# EAGLE library part SN74LVC1G74 (library texas-instruments)
Single Positive-Edge-Triggered D-Type Flip-Flop With Clear and Preset
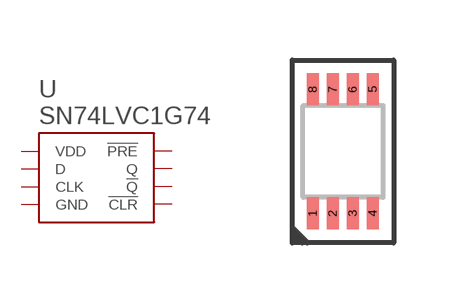
[diagram p17: symbol with the pads of R-PDSO-G8; footprint R-PDSO-G8]

Designator prefix U

## SN74LVC1G74DCU  [R-PDSO-G8]
1  CLK
2  D
3  !Q
4  GND
5  Q
6  !CLR
7  !PRE
8  VDD

## Footprint R-PDSO-G8 (pad centres in mm)
smd 0.3 x 0.8: 1 -0.75,-1.55; 2 -0.25,-1.55; 3 0.25,-1.55; 4 0.75,-1.55; 5 0.75,1.55; 6 0.25,1.55; 7 -0.25,1.55; 8 -0.75,1.55